# Altium schematic symbol library SCH - POWER - MODULE - MURATA -MGJ1D241509MPC.SCHLIB: 1 symbol
Pins are listed as number, name and electrical type; pins without a type are passive.

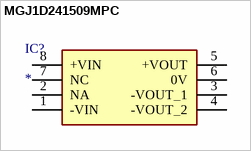
[diagram p0: symbol MGJ1D241509MPC]

## MGJ1D241509MPC
designator IC?
Power Supply; Manufacturer_Name: Murata Electronics; Manufacturer_Part_Number: MGJ1D241509MPC-R7; Description: Isolated DC/DC Converters 1W 24Vin 15/-9Vout 42mA 5.7kVDC Isolated 1W SM Gate Drive DC/DC Converters; Datasheet Link: https://www.murata.com/products/productdata/8807029964830/kdc-mgj1.pdf?1583754812000; Height: 4.86mm; Mouser Part Number: 580-MGJ1D241509MPCR7; Mouser Price/Stock: https://www.mouser.co.uk/ProductDetail/Murata-Power-Solutions/MGJ1D241509MPC-R7?qs=YlHR7fkrjk%252BeFz5Azm2BZA%3D%3D; Arrow Part Number: MGJ1D241509MPC-R7; Arrow Price/Stock: https://www.arrow.com/en/products/mgj1d241509mpc-r7/murata-power-solutions
pins: 1 -VIN, 2 NA, 3 -VOUT_1, 4 -VOUT_2, 5 +VOUT, 6 0V, 7 NC, 8 +VIN